# Altium schematic symbol library OPTO,Triac Output,5kV,Thru.SchLib: 1 symbol
Pins are listed as number, name and electrical type; pins without a type are passive.

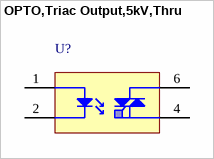
[diagram p0: symbol OPTO,Triac Output,5kV,Thru]

## OPTO,Triac Output,5kV,Thru
designator U?
pins: 1 A, 2 C, 4 MT1, 6 MT2